# EAGLE library part CH32V307VCT6 (library WCH)
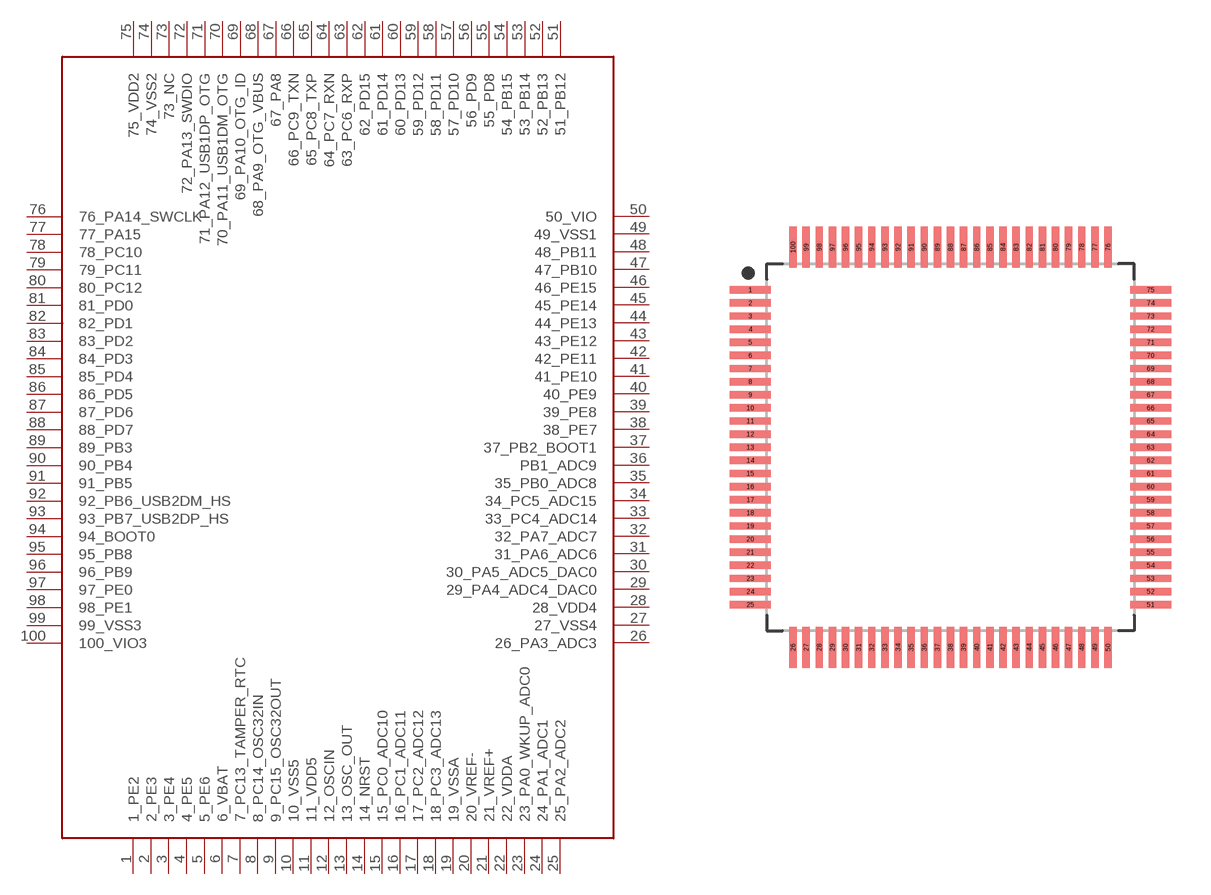
[diagram p0: symbol with the pads of QFP50P1600X1600X120-100N; footprint QFP50P1600X1600X120-100N]

Designator prefix -

## CH32V307VCT6LQFP100 (LCSC_PART: C2943979)  [QFP50P1600X1600X120-100N]
1  1_PE2
2  2_PE3
3  3_PE4
4  4_PE5
5  5_PE6
6  6_VBAT
7  7_PC13_TAMPER_RTC
8  8_PC14_OSC32IN
9  9_PC15_OSC32OUT
10  10_VSS5
11  11_VDD5
12  12_OSCIN
13  13_OSC_OUT
14  14_NRST
15  15_PC0_ADC10
16  16_PC1_ADC11
17  17_PC2_ADC12
18  18_PC3_ADC13
19  19_VSSA
20  20_VREF-
21  21_VREF+
22  22_VDDA
23  23_PA0_WKUP_ADC0
24  24_PA1_ADC1
25  25_PA2_ADC2
26  26_PA3_ADC3
27  27_VSS4
28  28_VDD4
29  29_PA4_ADC4_DAC0
30  30_PA5_ADC5_DAC0
31  31_PA6_ADC6
32  32_PA7_ADC7
33  33_PC4_ADC14
34  34_PC5_ADC15
35  35_PB0_ADC8
36  PB1_ADC9
37  37_PB2_BOOT1
38  38_PE7
39  39_PE8
40  40_PE9
41  41_PE10
42  42_PE11
43  43_PE12
44  44_PE13
45  45_PE14
46  46_PE15
47  47_PB10
48  48_PB11
49  49_VSS1
50  50_VIO
51  51_PB12
52  52_PB13
53  53_PB14
54  54_PB15
55  55_PD8
56  56_PD9
57  57_PD10
58  58_PD11
59  59_PD12
60  60_PD13
61  61_PD14
62  62_PD15
63  63_PC6_RXP
64  64_PC7_RXN
65  65_PC8_TXP
66  66_PC9_TXN
67  67_PA8
68  68_PA9_OTG_VBUS
69  69_PA10_OTG_ID
70  70_PA11_USB1DM_OTG
71  71_PA12_USB1DP_OTG
72  72_PA13_SWDIO
73  73_NC
74  74_VSS2
75  75_VDD2
76  76_PA14_SWCLK
77  77_PA15
78  78_PC10
79  79_PC11
80  80_PC12
81  81_PD0
82  82_PD1
83  83_PD2
84  84_PD3
85  85_PD4
86  86_PD5
87  87_PD6
88  88_PD7
89  89_PB3
90  90_PB4
91  91_PB5
92  92_PB6_USB2DM_HS
93  93_PB7_USB2DP_HS
94  94_BOOT0
95  95_PB8
96  96_PB9
97  97_PE0
98  98_PE1
99  99_VSS3
100  100_VIO3

## Footprint QFP50P1600X1600X120-100N (pad centres in mm)
100-QFP, 0.50 mm pitch, 16.00 mm span, 14.00 X 14.00 X 1.20 mm body 100-pin QFP package with 0.50 mm pitch, 16.00 mm lead span1 X 16.00 mm lead span2 with body size 14.00 X 14.00 X 1.20 mm
smd 1.558 x 0.28: 1 -7.627,6; 2 -7.627,5.5; 3 -7.627,5; 4 -7.627,4.5; 5 -7.627,4; 6 -7.627,3.5; 7 -7.627,3; 8 -7.627,2.5; 9 -7.627,2; 10 -7.627,1.5; 11 -7.627,1; 12 -7.627,0.5; 13 -7.627,0; 14 -7.627,-0.5; 15 -7.627,-1; 16 -7.627,-1.5; 17 -7.627,-2; 18 -7.627,-2.5; 19 -7.627,-3; 20 -7.627,-3.5; 21 -7.627,-4; 22 -7.627,-4.5; 23 -7.627,-5; 24 -7.627,-5.5; 25 -7.627,-6; 51 7.627,-6; 52 7.627,-5.5; 53 7.627,-5; 54 7.627,-4.5; 55 7.627,-4; 56 7.627,-3.5; 57 7.627,-3; 58 7.627,-2.5; 59 7.627,-2; 60 7.627,-1.5; 61 7.627,-1; 62 7.627,-0.5; 63 7.627,0; 64 7.627,0.5; 65 7.627,1; 66 7.627,1.5; 67 7.627,2; 68 7.627,2.5; 69 7.627,3; 70 7.627,3.5; 71 7.627,4; 72 7.627,4.5; 73 7.627,5; 74 7.627,5.5; 75 7.627,6
smd 0.28 x 1.558: 26 -6,-7.627; 27 -5.5,-7.627; 28 -5,-7.627; 29 -4.5,-7.627; 30 -4,-7.627; 31 -3.5,-7.627; 32 -3,-7.627; 33 -2.5,-7.627; 34 -2,-7.627; 35 -1.5,-7.627; 36 -1,-7.627; 37 -0.5,-7.627; 38 0,-7.627; 39 0.5,-7.627; 40 1,-7.627; 41 1.5,-7.627; 42 2,-7.627; 43 2.5,-7.627; 44 3,-7.627; 45 3.5,-7.627; 46 4,-7.627; 47 4.5,-7.627; 48 5,-7.627; 49 5.5,-7.627; 50 6,-7.627; 76 6,7.627; 77 5.5,7.627; 78 5,7.627; 79 4.5,7.627; 80 4,7.627; 81 3.5,7.627; 82 3,7.627; 83 2.5,7.627; 84 2,7.627; 85 1.5,7.627; 86 1,7.627; 87 0.5,7.627; 88 0,7.627; 89 -0.5,7.627; 90 -1,7.627; 91 -1.5,7.627; 92 -2,7.627; 93 -2.5,7.627; 94 -3,7.627; 95 -3.5,7.627; 96 -4,7.627; 97 -4.5,7.627; 98 -5,7.627; 99 -5.5,7.627; 100 -6,7.627